# EAGLE library part WL18XXMOD (library GTA04b7)
TI WIFI/BT modules: WL1801 WL1831 WL1835 WL1837
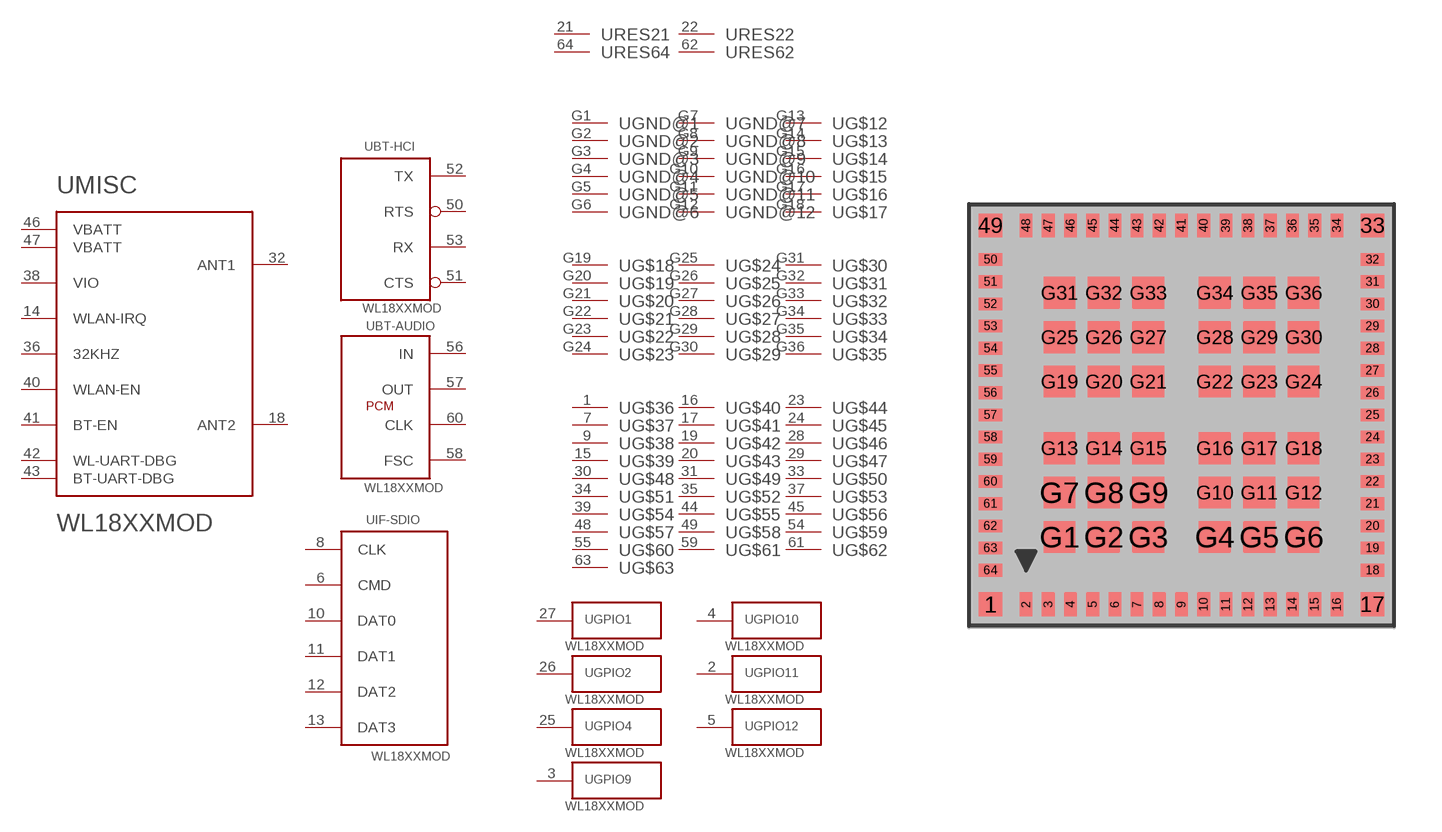
[diagram p57: symbol with the pads of WL18XXMOD; footprint WL18XXMOD]

Designator prefix -; gates BT-AUDIO=IF-PCM BT-HCI=IF-UART G$12=PIN-GENERIC G$13=PIN-GENERIC G$14=PIN-GENERIC G$15=PIN-GENERIC G$16=PIN-GENERIC G$17=PIN-GENERIC G$18=PIN-GENERIC G$19=PIN-GENERIC G$20=PIN-GENERIC G$21=PIN-GENERIC G$22=PIN-GENERIC G$23=PIN-GENERIC G$24=PIN-GENERIC G$25=PIN-GENERIC G$26=PIN-GENERIC G$27=PIN-GENERIC G$28=PIN-GENERIC G$29=PIN-GENERIC G$30=PIN-GENERIC G$31=PIN-GENERIC G$32=PIN-GENERIC G$33=PIN-GENERIC G$34=PIN-GENERIC G$35=PIN-GENERIC G$36=PIN-GENERIC G$37=PIN-GENERIC G$38=PIN-GENERIC G$39=PIN-GENERIC G$40=PIN-GENERIC G$41=PIN-GENERIC G$42=PIN-GENERIC G$43=PIN-GENERIC G$44=PIN-GENERIC G$45=PIN-GENERIC G$46=PIN-GENERIC G$47=PIN-GENERIC G$48=PIN-GENERIC G$49=PIN-GENERIC G$50=PIN-GENERIC G$51=PIN-GENERIC G$52=PIN-GENERIC G$53=PIN-GENERIC G$54=PIN-GENERIC G$55=PIN-GENERIC G$56=PIN-GENERIC G$57=PIN-GENERIC G$58=PIN-GENERIC G$59=PIN-GENERIC G$60=PIN-GENERIC G$61=PIN-GENERIC G$62=PIN-GENERIC G$63=PIN-GENERIC GND@1=PIN-GENERIC GND@2=PIN-GENERIC GND@3=PIN-GENERIC GND@4=PIN-GENERIC GND@5=PIN-GENERIC GND@6=PIN-GENERIC GND@7=PIN-GENERIC GND@8=PIN-GENERIC GND@9=PIN-GENERIC GND@10=PIN-GENERIC GND@11=PIN-GENERIC GND@12=PIN-GENERIC GPIO1=IF-GPIO GPIO2=IF-GPIO GPIO4=IF-GPIO GPIO9=IF-GPIO GPIO10=IF-GPIO GPIO11=IF-GPIO GPIO12=IF-GPIO IF-SDIO=IF-MMC4 MISC=WL18XXMOD-MISC RES21=PIN-GENERIC RES22=PIN-GENERIC RES62=PIN-GENERIC RES64=PIN-GENERIC

## WL18XXMODGIMOC  [WL18XXMOD]
1  G$36:PIN  pas
2  GPIO11:GPIO
3  GPIO9:GPIO
4  GPIO10:GPIO
5  GPIO12:GPIO
6  IF-SDIO:CMD  out
7  G$37:PIN  pas
8  IF-SDIO:CLK  out
9  G$38:PIN  pas
10  IF-SDIO:DAT0
11  IF-SDIO:DAT1
12  IF-SDIO:DAT2
13  IF-SDIO:DAT3
14  MISC:WLAN-IRQ  oc
15  G$39:PIN  pas
16  G$40:PIN  pas
17  G$41:PIN  pas
18  MISC:ANT2  sup
19  G$42:PIN  pas
20  G$43:PIN  pas
21  RES21:PIN  pas
22  RES22:PIN  pas
23  G$44:PIN  pas
24  G$45:PIN  pas
25  GPIO4:GPIO
26  GPIO2:GPIO
27  GPIO1:GPIO
28  G$46:PIN  pas
29  G$47:PIN  pas
30  G$48:PIN  pas
31  G$49:PIN  pas
32  MISC:ANT1  pas
33  G$50:PIN  pas
34  G$51:PIN  pas
35  G$52:PIN  pas
36  MISC:32KHZ  in
37  G$53:PIN  pas
38  MISC:VIO  pwr
39  G$54:PIN  pas
40  MISC:WLAN-EN  in
41  MISC:BT-EN  in
42  MISC:WL-UART-DBG
43  MISC:BT-UART-DBG
44  G$55:PIN  pas
45  G$56:PIN  pas
46  MISC:VBATT  pwr
47  MISC:VBATT  pwr
48  G$57:PIN  pas
49  G$58:PIN  pas
50  BT-HCI:RTS  out
51  BT-HCI:CTS  in
52  BT-HCI:TX  out
53  BT-HCI:RX  in
54  G$59:PIN  pas
55  G$60:PIN  pas
56  BT-AUDIO:IN  in
57  BT-AUDIO:OUT
58  BT-AUDIO:FSC
59  G$61:PIN  pas
60  BT-AUDIO:CLK
61  G$62:PIN  pas
62  RES62:PIN  pas
63  G$63:PIN  pas
64  RES64:PIN  pas
G1  GND@1:PIN  pas
G2  GND@2:PIN  pas
G3  GND@3:PIN  pas
G4  GND@4:PIN  pas
G5  GND@5:PIN  pas
G6  GND@6:PIN  pas
G7  GND@7:PIN  pas
G8  GND@8:PIN  pas
G9  GND@9:PIN  pas
G10  GND@10:PIN  pas
G11  GND@11:PIN  pas
G12  GND@12:PIN  pas
G13  G$12:PIN  pas
G14  G$13:PIN  pas
G15  G$14:PIN  pas
G16  G$15:PIN  pas
G17  G$16:PIN  pas
G18  G$17:PIN  pas
G19  G$18:PIN  pas
G20  G$19:PIN  pas
G21  G$20:PIN  pas
G22  G$21:PIN  pas
G23  G$22:PIN  pas
G24  G$23:PIN  pas
G25  G$24:PIN  pas
G26  G$25:PIN  pas
G27  G$26:PIN  pas
G28  G$27:PIN  pas
G29  G$28:PIN  pas
G30  G$29:PIN  pas
G31  G$30:PIN  pas
G32  G$31:PIN  pas
G33  G$32:PIN  pas
G34  G$33:PIN  pas
G35  G$34:PIN  pas
G36  G$35:PIN  pas

## Footprint WL18XXMOD (pad centres in mm)
LGA for TI WL18xxMOD WiLink 8 modules
smd 0.75 x 0.75: 1 -6.025,-5.975; 17 6.025,-5.975; 33 6.025,5.975; 49 -6.025,5.975
smd 0.4 x 0.75: 2 -4.9,-5.975; 3 -4.2,-5.975; 4 -3.5,-5.975; 5 -2.8,-5.975; 6 -2.1,-5.975; 7 -1.4,-5.975; 8 -0.7,-5.975; 9 0,-5.975; 10 0.7,-5.975; 11 1.4,-5.975; 12 2.1,-5.975; 13 2.8,-5.975; 14 3.5,-5.975; 15 4.2,-5.975; 16 4.9,-5.975; 34 4.9,5.975; 35 4.2,5.975; 36 3.5,5.975; 37 2.8,5.975; 38 2.1,5.975; 39 1.4,5.975; 40 0.7,5.975; 41 0,5.975; 42 -0.7,5.975; 43 -1.4,5.975; 44 -2.1,5.975; 45 -2.8,5.975; 46 -3.5,5.975; 47 -4.2,5.975; 48 -4.9,5.975
smd 0.75 x 0.4: 18 6.025,-4.9; 19 6.025,-4.2; 20 6.025,-3.5; 21 6.025,-2.8; 22 6.025,-2.1; 23 6.025,-1.4; 24 6.025,-0.7; 25 6.025,0; 26 6.025,0.7; 27 6.025,1.4; 28 6.025,2.1; 29 6.025,2.8; 30 6.025,3.5; 31 6.025,4.2; 32 6.025,4.9; 50 -6.025,4.9; 51 -6.025,4.2; 52 -6.025,3.5; 53 -6.025,2.8; 54 -6.025,2.1; 55 -6.025,1.4; 56 -6.025,0.7; 57 -6.025,0; 58 -6.025,-0.7; 59 -6.025,-1.4; 60 -6.025,-2.1; 61 -6.025,-2.8; 62 -6.025,-3.5; 63 -6.025,-4.2; 64 -6.025,-4.9
smd 1 x 1: G1 -3.85,-3.85; G2 -2.45,-3.85; G3 -1.05,-3.85; G4 1.05,-3.85; G5 2.45,-3.85; G6 3.85,-3.85; G7 -3.85,-2.45; G8 -2.45,-2.45; G9 -1.05,-2.45; G10 1.05,-2.45; G11 2.45,-2.45; G12 3.85,-2.45; G13 -3.85,-1.05; G14 -2.45,-1.05; G15 -1.05,-1.05; G16 1.05,-1.05; G17 2.45,-1.05; G18 3.85,-1.05; G19 -3.85,1.05; G20 -2.45,1.05; G21 -1.05,1.05; G22 1.05,1.05; G23 2.45,1.05; G24 3.85,1.05; G25 -3.85,2.45; G26 -2.45,2.45; G27 -1.05,2.45; G28 1.05,2.45; G29 2.45,2.45; G30 3.85,2.45; G31 -3.85,3.85; G32 -2.45,3.85; G33 -1.05,3.85; G34 1.05,3.85; G35 2.45,3.85; G36 3.85,3.85